# EAGLE library part MC68230P (library micro-mc68000)
68xxx PROCESSOR
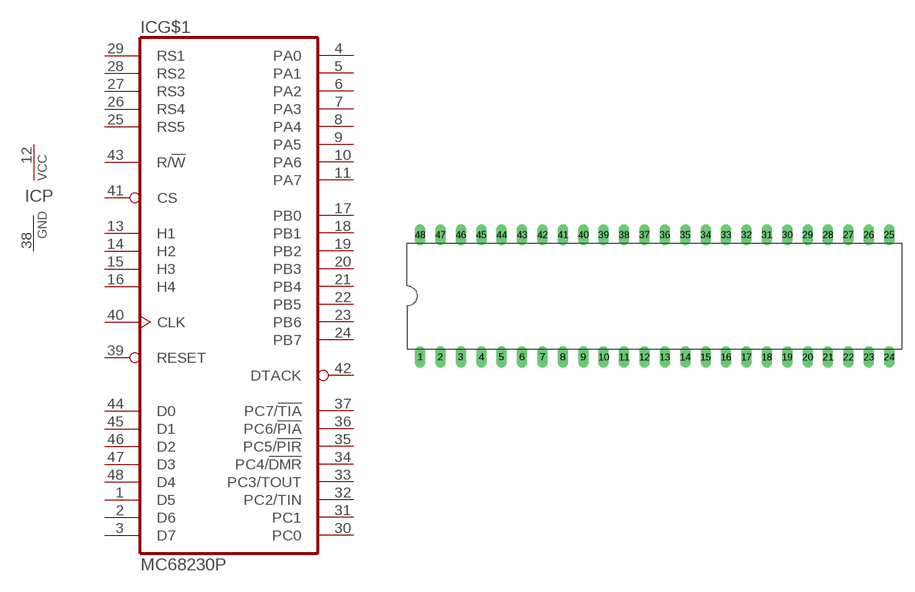
[diagram p1: symbol with the pads of DIL48; footprint DIL48]

Designator prefix IC; gates G$1=68230 P=PWRN

## MC68230P (OC_FARNELL: unknown; OC_NEWARK: unknown)  [DIL48]
1  G$1:D5
2  G$1:D6
3  G$1:D7
4  G$1:PA0
5  G$1:PA1
6  G$1:PA2
7  G$1:PA3
8  G$1:PA4
9  G$1:PA5
10  G$1:PA6
11  G$1:PA7
12  P:VCC  pwr
13  G$1:H1  in
14  G$1:H2
15  G$1:H3  in
16  G$1:H4
17  G$1:PB0
18  G$1:PB1
19  G$1:PB2
20  G$1:PB3
21  G$1:PB4
22  G$1:PB5
23  G$1:PB6
24  G$1:PB7
25  G$1:RS5  in
26  G$1:RS4  in
27  G$1:RS3  in
28  G$1:RS2  in
29  G$1:RS1  in
30  G$1:PC0
31  G$1:PC1
32  G$1:PC2/TIN
33  G$1:PC3/TOUT
34  G$1:PC4/!DMR
35  G$1:PC5/!PIR
36  G$1:PC6/!PIA
37  G$1:PC7/!TIA
38  P:GND  pwr
39  G$1:RESET  in
40  G$1:CLK  in
41  G$1:CS  in
42  G$1:DTACK  out
43  G$1:R/!W  in
44  G$1:D0
45  G$1:D1
46  G$1:D2
47  G$1:D3
48  G$1:D4

## Footprint DIL48 (pad centres in mm)
Dual In Line
drill 0.813 long: 1 -29.21,-7.62; 2 -26.67,-7.62; 3 -24.13,-7.62; 4 -21.59,-7.62; 5 -19.05,-7.62; 6 -16.51,-7.62; 7 -13.97,-7.62; 8 -11.43,-7.62; 9 -8.89,-7.62; 10 -6.35,-7.62; 11 -3.81,-7.62; 12 -1.27,-7.62; 13 1.27,-7.62; 14 3.81,-7.62; 15 6.35,-7.62; 16 8.89,-7.62; 17 11.43,-7.62; 18 13.97,-7.62; 19 16.51,-7.62; 20 19.05,-7.62; 21 21.59,-7.62; 22 24.13,-7.62; 23 26.67,-7.62; 24 29.21,-7.62; 25 29.21,7.62; 26 26.67,7.62; 27 24.13,7.62; 28 21.59,7.62; 29 19.05,7.62; 30 16.51,7.62; 31 13.97,7.62; 32 11.43,7.62; 33 8.89,7.62; 34 6.35,7.62; 35 3.81,7.62; 36 1.27,7.62; 37 -1.27,7.62; 38 -3.81,7.62; 39 -6.35,7.62; 40 -8.89,7.62; 41 -11.43,7.62; 42 -13.97,7.62; 43 -16.51,7.62; 44 -19.05,7.62; 45 -21.59,7.62; 46 -24.13,7.62; 47 -26.67,7.62; 48 -29.21,7.62